# EAGLE library part FT121T (library Oles komponentbibliotek)
USB device controller with SPI slave IC
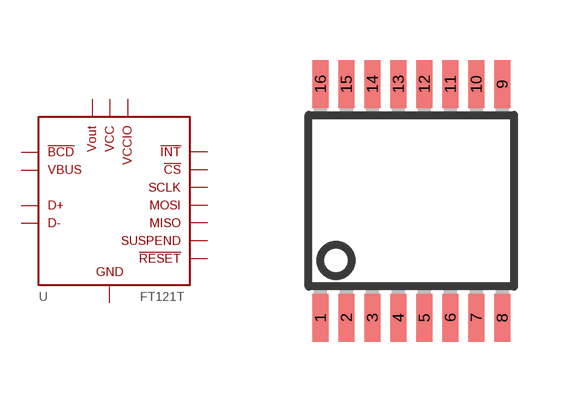
[diagram p23: symbol with the pads of SSOP16; footprint SSOP16]

Designator prefix -

## FT121T  [SSOP16]
1  !BCD  out
2  SCLK  in
3  !CS  in
4  GND  pwr
5  VCCIO  pwr
6  SUSPEND
7  !INT  oc
8  MISO  out
9  MOSI  in
10  VBUS  in
11  !RESET  in
12  VOUT  pwr
13  VCC  pwr
14  GND  pwr
15  D-
16  D+

## Footprint SSOP16 (pad centres in mm)
Small Shrink Outline Package
smd 0.4 x 1.2: 1 -2.275,-2.925; 2 -1.625,-2.925; 3 -0.975,-2.925; 4 -0.325,-2.925; 5 0.325,-2.925; 6 0.975,-2.925; 7 1.625,-2.925; 8 2.275,-2.925; 9 2.275,2.925; 10 1.625,2.925; 11 0.975,2.925; 12 0.325,2.925; 13 -0.325,2.925; 14 -0.975,2.925; 15 -1.625,2.925; 16 -2.275,2.925